# EAGLE library part CON_2.54MM_18PINS_STACKABLE (library STM32F4)
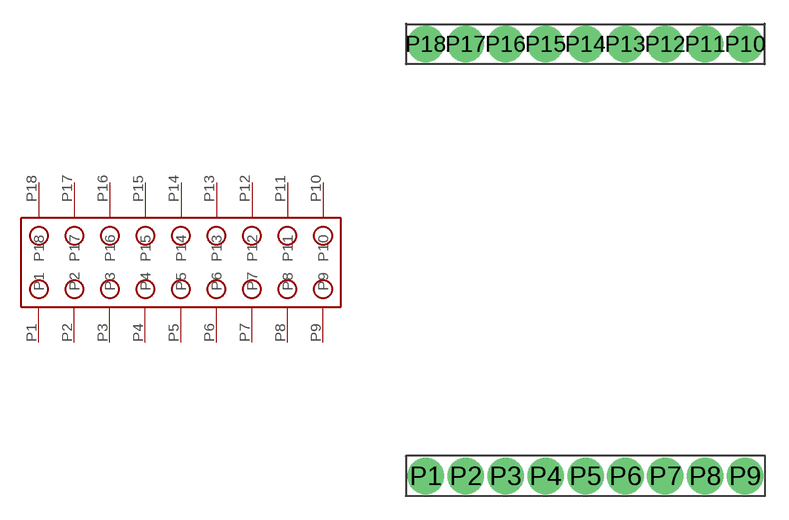
[diagram p2: symbol with the pads of CON_2.54MM_18PINS_STACKABLE; footprint CON_2.54MM_18PINS_STACKABLE]

Designator prefix -

## CON_2.54MM_18PINS_STACKABLE  [CON_2.54MM_18PINS_STACKABLE]
P1  P1
P2  P2
P3  P3
P4  P4
P5  P5
P6  P6
P7  P7
P8  P8
P9  P9
P10  P10
P11  P11
P12  P12
P13  P13
P14  P14
P15  P15
P16  P16
P17  P17
P18  P18

## Footprint CON_2.54MM_18PINS_STACKABLE (pad centres in mm)
drill 1.55 pad 2.184: P1 -10.16,0; P2 -7.62,0; P3 -5.08,0; P4 -2.54,0; P5 0,0; P6 2.54,0; P7 5.08,0; P8 7.62,0; P9 10.16,0; P10 10.16,27.5; P11 7.62,27.5; P12 5.08,27.5; P13 2.54,27.5; P14 0,27.5; P15 -2.54,27.5; P16 -5.08,27.5; P17 -7.62,27.5; P18 -10.16,27.5